# Altium footprint library INDDFN600X600X280-2N.PcbLib: 1 footprints
Each footprint in its own frame and in the unit in brackets; x right, y up, seen from the top. Pads: shape width x height; smd on the part's side, far side on the other; paste and mask are expansions set on the pad; w line width, h text height; cw(c..) or ccw(c..) is an arc to the next point about the centre after c.
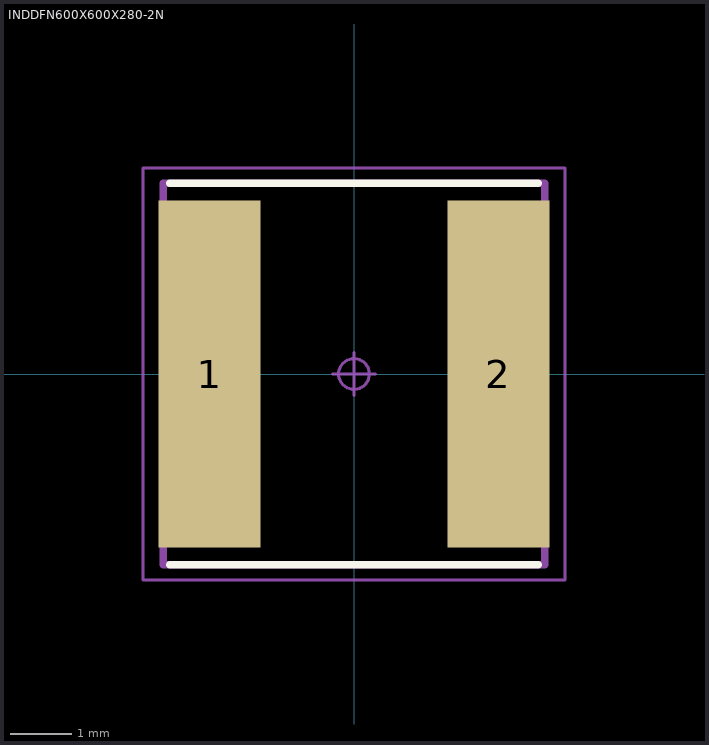
[diagram p0: the footprint, top view; thin cyan lines are the x and y axes]

## INDDFN600X600X280-2N [mm] "Inductor, Dual Flat No-Lead (DFN 2 Pin); 2 pin, 6.00 mm L X 6.00 mm W X 2.80 mm H body"
height 2.8
pads (2):
  rect 1.66x5.65 smd: 1(-2.35,0) 2(2.35,0)
Top Overlay:
  lines w0.12: -3,-3.1 3,-3.1 ; -3,3.1 3,3.1
Mechanical 11:
  lines w0.12: -3.1,-3.1 3.1,-3.1 3.1,3.1 -3.1,3.1 -3.1,-3.1
Mechanical 15:
  circle w0.05: c0,0 r0.25
  lines w0.05: -0.35,0 0.35,0 ; 0,-0.35 0,0.35 ; -3.43,-3.35 3.43,-3.35 3.43,3.35 -3.43,3.35 -3.43,-3.35
3D body: height 2.84, standoff -0.01, extent -3,-3 3,3